# Altium schematic symbol library Quadruped.SchLib: 7 symbols
Pins are listed as number, name and electrical type; pins without a type are passive.

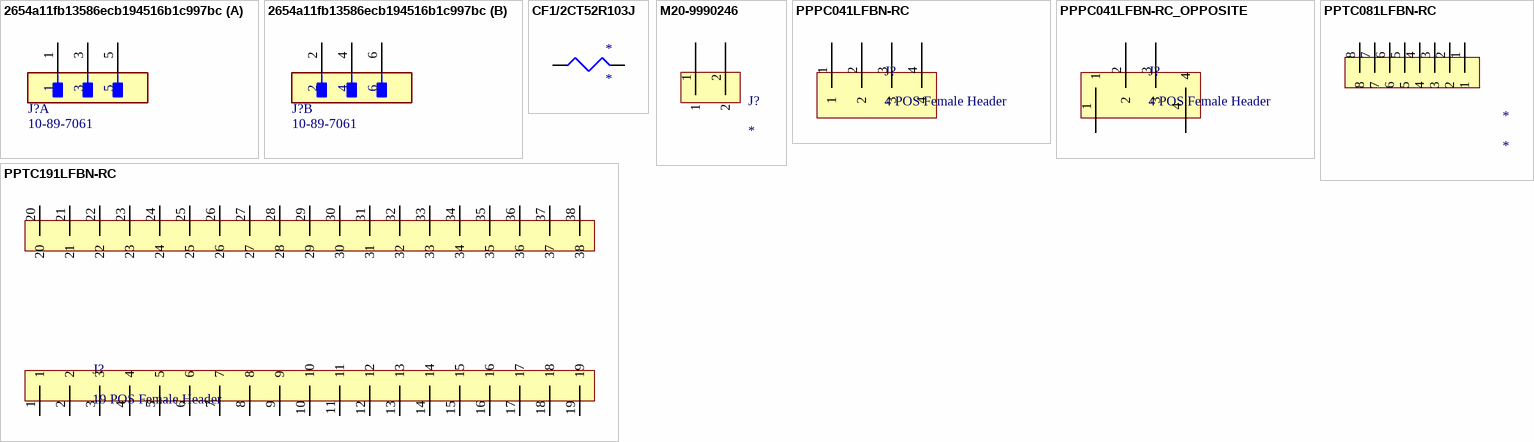
[diagram p0: symbols 2654a11fb13586ecb194516b1c997bc to PPTC191LFBN-RC]

## 2654a11fb13586ecb194516b1c997bc
designator J?, comment 10-89-7061
CONN HEADER VERT 6POS 2.54MM; Row Spacing: 0.1inch; Glow Wire Compliant: Non-compliant; Current Rating: 3A; Number of Circuits: 6; Contact Resistance: 15mR; Voltage Rating (DC): 250V; Gender: Male; Connector Type: Male Pin; Lead Free: Lead Free; Radiation Hardening: No; Contact Type: Male Pin; ELV: Compliant; Housing Color: Black; Series: C-Grid® 70280; Number of Rows: 2; Termination: Solder; Housing Material: Thermoplastic; Depth: 5.08mm; RoHS Compliant: Yes; Contact Plating: Tin; Material: Copper Alloy; Contact Material: Brass; Color: Black; Contact Gender: Male; Number of Contacts: 6; Orientation: Straight; Halogen Free: Low Halogen; Mount: Through Hole; Voltage Rating: 250V; Pitch: 2.54mm; Contact Mating Length: 0.24inch; Package Quantity: 1; Packaging: Bulk; Flammability Rating: UL94 V-0; Number of Positions: 6
footprint FP-10-89-7061-MFG
footprint 3x2_MALE_HEADER
part A pins: 1, 3, 5
part B pins: 2, 4, 6

## CF1/2CT52R103J
designator *
Res, 10K, 0.5W, Axial, Carbon Film Rohs Compliant: Yes |Koa CF1/2CT52R103J; Manufacturer: KOA Speer; Value: 10kR; Tolerance: 5%; Power Rating: 500mW; Voltage Rating: 400V; Temperature Coefficient: 350ppm/°C; Supplier: Digi-Key; Supplier Part Number: 2019-CF1/2CT52R103JCT-ND; Manufacturer Part Number: CF1/2CT52R103J; Category: Through-Hole Resistors; Stock: 26977; Pricing: 1=0.12, 10=0.104, 25=0.072, 50=0.0558, 100=0.0399, 250=0.03112, 500=0.02474, 1000=0.01755 (USD); Mounting Technology: Through Hole; Case/Package: Conformal; Min Operating Temperature: -55°C; Max Operating Temperature: 155°C; Packaging: Tape and Reel; Package Quantity: 4000; Termination: Axial; Series: CF; Construction: Cylindrical; Length: 8.5mm; Military Standard: Not; RoHS Compliant: Yes; ComponentLink1URL: https://datasheet.ciiva.com/5478/cf-5478522.pdf?src-supplier=Mouser; ComponentLink1Description: https://datasheet.ciiva.com/5478/cf-5478522.pdf?src-supplier=Mouser; ComponentLink2URL: https://datasheet.octopart.com/CF1-2CT52R103J-KOA-Speer-datasheet-149521760.pdf?src-supplier=Farnell; ComponentLink2Description: https://datasheet.octopart.com/CF1-2CT52R103J-KOA-Speer-datasheet-149521760.pdf?src-supplier=Farnell; ComponentLink3URL: https://datasheet.octopart.com/CF1/2CT52R103J-KOA-Speer-datasheet-160006.pdf?src-supplier=Mouser; ComponentLink3Description: https://datasheet.octopart.com/CF1/2CT52R103J-KOA-Speer-datasheet-160006.pdf?src-supplier=Mouser
footprint 10K 1/2W
pins: 1, 2

## M20-9990246
designator J?
2.54mm (0.1") Pitch SIL Vertical PC Tail Pin Header, 6.1mm mating pin height, tin, 2 contacts; Manufacturer: Harwin; Manufacturer Part Number: M20-9990246; Supplier: Rs; Supplier Part Number: 7457065; RoHS: Yes; Category: Headers and Wire Housings; Stock: 4090; ComponentLink1URL: https://datasheet.ciiva.com/8046/315376-8046930.pdf?src-supplier=Element14; ComponentLink1Description: https://datasheet.ciiva.com/8046/315376-8046930.pdf?src-supplier=Element14; ComponentLink2URL: https://datasheet.ciiva.com/11745/0900766b81034e61-11745755.pdf?src-supplier=Rs; ComponentLink2Description: https://datasheet.ciiva.com/11745/0900766b81034e61-11745755.pdf?src-supplier=Rs; ComponentLink3URL: https://datasheet.ciiva.com/22660/1830818-22660571.pdf?src-supplier=Element14; ComponentLink3Description: https://datasheet.ciiva.com/22660/1830818-22660571.pdf?src-supplier=Element14; ComponentLink4URL: https://datasheet.ciiva.com/6833/m20-999-6833368.pdf?src-supplier=Digi-Key; ComponentLink4Description: https://datasheet.ciiva.com/6833/m20-999-6833368.pdf?src-supplier=Digi-Key; ComponentLink5URL: https://datasheet.ciiva.com/26852/getdatasheetpartid-384170-26852203.pdf?src-supplier=Verical; ComponentLink5Description: https://datasheet.ciiva.com/26852/getdatasheetpartid-384170-26852203.pdf?src-supplier=Verical
footprint 2x1_MALE_HEADER
pins: 1, 2

## PPPC041LFBN-RC
designator J?, comment 4 POS Female Header
CONN HDR 4POS 0.1 GOLD PCB; Manufacturer: Sullins; Manufacturer Part Number: PPPC041LFBN-RC; Supplier: Digi-Key; Supplier Part Number: S7037-ND; RoHS: Yes; Category: Connectors; Stock: 27520; Pricing: 1=0.47, 10=0.411, 100=0.3391, 500=0.29484, 1000=0.24324, 5000=0.21376, 10000=0.2106 (USD); ComponentLink1URL: https://media.digikey.com/pdf/Data%20Sheets/Sullins%20PDFs/Female_Headers.100_DS.pdf?src-supplier=Digi-Key; ComponentLink1Description: https://media.digikey.com/pdf/Data%20Sheets/Sullins%20PDFs/Female_Headers.100_DS.pdf?src-supplier=Digi-Key; ComponentLink2URL: http://www.sullinscorp.com/catalogs/78_Page80-81_HEADER_.100_2.54mm_FEMALE.pdf?src-supplier=Future+Electronics; ComponentLink2Description: http://www.sullinscorp.com/catalogs/78_Page80-81_HEADER_.100_2.54mm_FEMALE.pdf?src-supplier=Future+Electronics; ComponentLink3URL: https://datasheet.octopart.com/PPPC041LFBN-RC-Sullins-datasheet-41308905.pdf?src-supplier=Future+Electronics; ComponentLink3Description: https://datasheet.octopart.com/PPPC041LFBN-RC-Sullins-datasheet-41308905.pdf?src-supplier=Future+Electronics
footprint SULLINS_PPTC041LFBN-RC
pins: 1, 2, 3, 4

## PPPC041LFBN-RC_OPPOSITE
designator J?, comment 4 POS Female Header
CONN HDR 4POS 0.1 GOLD PCB; Manufacturer: Sullins; Manufacturer Part Number: PPPC041LFBN-RC; Supplier: Digi-Key; Supplier Part Number: S7037-ND; RoHS: Yes; Category: Connectors; Stock: 27520; Pricing: 1=0.47, 10=0.411, 100=0.3391, 500=0.29484, 1000=0.24324, 5000=0.21376, 10000=0.2106 (USD); ComponentLink1URL: https://media.digikey.com/pdf/Data%20Sheets/Sullins%20PDFs/Female_Headers.100_DS.pdf?src-supplier=Digi-Key; ComponentLink1Description: https://media.digikey.com/pdf/Data%20Sheets/Sullins%20PDFs/Female_Headers.100_DS.pdf?src-supplier=Digi-Key; ComponentLink2URL: http://www.sullinscorp.com/catalogs/78_Page80-81_HEADER_.100_2.54mm_FEMALE.pdf?src-supplier=Future+Electronics; ComponentLink2Description: http://www.sullinscorp.com/catalogs/78_Page80-81_HEADER_.100_2.54mm_FEMALE.pdf?src-supplier=Future+Electronics; ComponentLink3URL: https://datasheet.octopart.com/PPPC041LFBN-RC-Sullins-datasheet-41308905.pdf?src-supplier=Future+Electronics; ComponentLink3Description: https://datasheet.octopart.com/PPPC041LFBN-RC-Sullins-datasheet-41308905.pdf?src-supplier=Future+Electronics
footprint SULLINS_PPTC041LFBN-RC
pins: 1, 2, 3, 4

## PPTC081LFBN-RC
designator *
Female, 8C, Straight, .100"CC; 3.20mm Tail, No Mt. 100u" Tin; PBT, Phos Bronze, 105 C; Manufacturer: Sullins; Manufacturer Part Number: PPTC081LFBN-RC; Supplier: Digi-Key; Supplier Part Number: S7006-ND; RoHS: Yes; Category: Connectors; Stock: 25448; Pricing: 1=0.65, 10=0.565, 400=0.42525, 800=0.3645, 1200=0.33413, 5200=0.29363, 10000=0.2925 (USD); ComponentLink1URL: https://media.digikey.com/pdf/Data%20Sheets/Sullins%20PDFs/Female_Headers.100_DS.pdf?src-supplier=Digi-Key; ComponentLink1Description: https://media.digikey.com/pdf/Data%20Sheets/Sullins%20PDFs/Female_Headers.100_DS.pdf?src-supplier=Digi-Key; ComponentLink2URL: https://datasheet.octopart.com/PPTC081LFBN-RC-Sullins-datasheet-41308905.pdf?src-supplier=Future+Electronics; ComponentLink2Description: https://datasheet.octopart.com/PPTC081LFBN-RC-Sullins-datasheet-41308905.pdf?src-supplier=Future+Electronics; ComponentLink3URL: http://www.sullinscorp.com/catalogs/78_Page80-81_HEADER_.100_2.54mm_FEMALE.pdf?src-supplier=Future+Electronics; ComponentLink3Description: http://www.sullinscorp.com/catalogs/78_Page80-81_HEADER_.100_2.54mm_FEMALE.pdf?src-supplier=Future+Electronics
footprint 8POS_FEMALE_HEADER
pins: 1, 2, 3, 4, 5, 6, 7, 8

## PPTC191LFBN-RC
designator J?, comment 19 POS Female Header
CONN HDR 19POS 0.1 TIN PCB; Manufacturer: Sullins; Manufacturer Part Number: PPTC191LFBN-RC; Number of Positions: 19; Voltage Rating: 250V; Supplier: Digi-Key; Supplier Part Number: S7017-ND; RoHS: Yes; Category: Connectors; Stock: 11638; Pricing: 1=1.18, 10=0.997, 80=0.89488, 440=0.73218, 1000=0.65083, 5000=0.5811 (USD); Mounting Technology: Through Hole; Contact Material: Bronze; Housing Material: Plastic; Contact Finish - Mating: TIN; Insulation Color: Black; Insulation Material: Polyester; Contact Shape: Square; Min Operating Temperature: -40°C; Max Operating Temperature: 105°C; Number of Rows: 1; Packaging: Tray; Termination: Solder; Contact Type: Female Socket; Series: -; Fastening Type: Pull; Connector Type: Header; Length: 48.8mm; Width: 2.5mm; Height: 8.5mm; Lead Free: Lead Free; RoHS Compliant: Yes; Flammability Rating: UL94 V-0; ComponentLink1URL: https://s3.amazonaws.com/catalogspreads-pdf/PAGE114-115%20.100%20FEMALE%20HDR.pdf?src-supplier=Digi-Key; ComponentLink1Description: https://s3.amazonaws.com/catalogspreads-pdf/PAGE114-115%20.100%20FEMALE%20HDR.pdf?src-supplier=Digi-Key
footprint ESP_32
pins: 1, 2, 3, 4, 5, 6, 7, 8, 9, 10, 11, 12, 13, 14, 15, 16, 17, 18, 19, 20, 21, 22, 23, 24, 25, 26, 27, 28, 29, 30, 31, 32, 33, 34, 35, 36, 37, 38